# Altium integrated library ON Semi Signal Management Signal Switches.IntLib: 212 symbols (part 3 of 6)
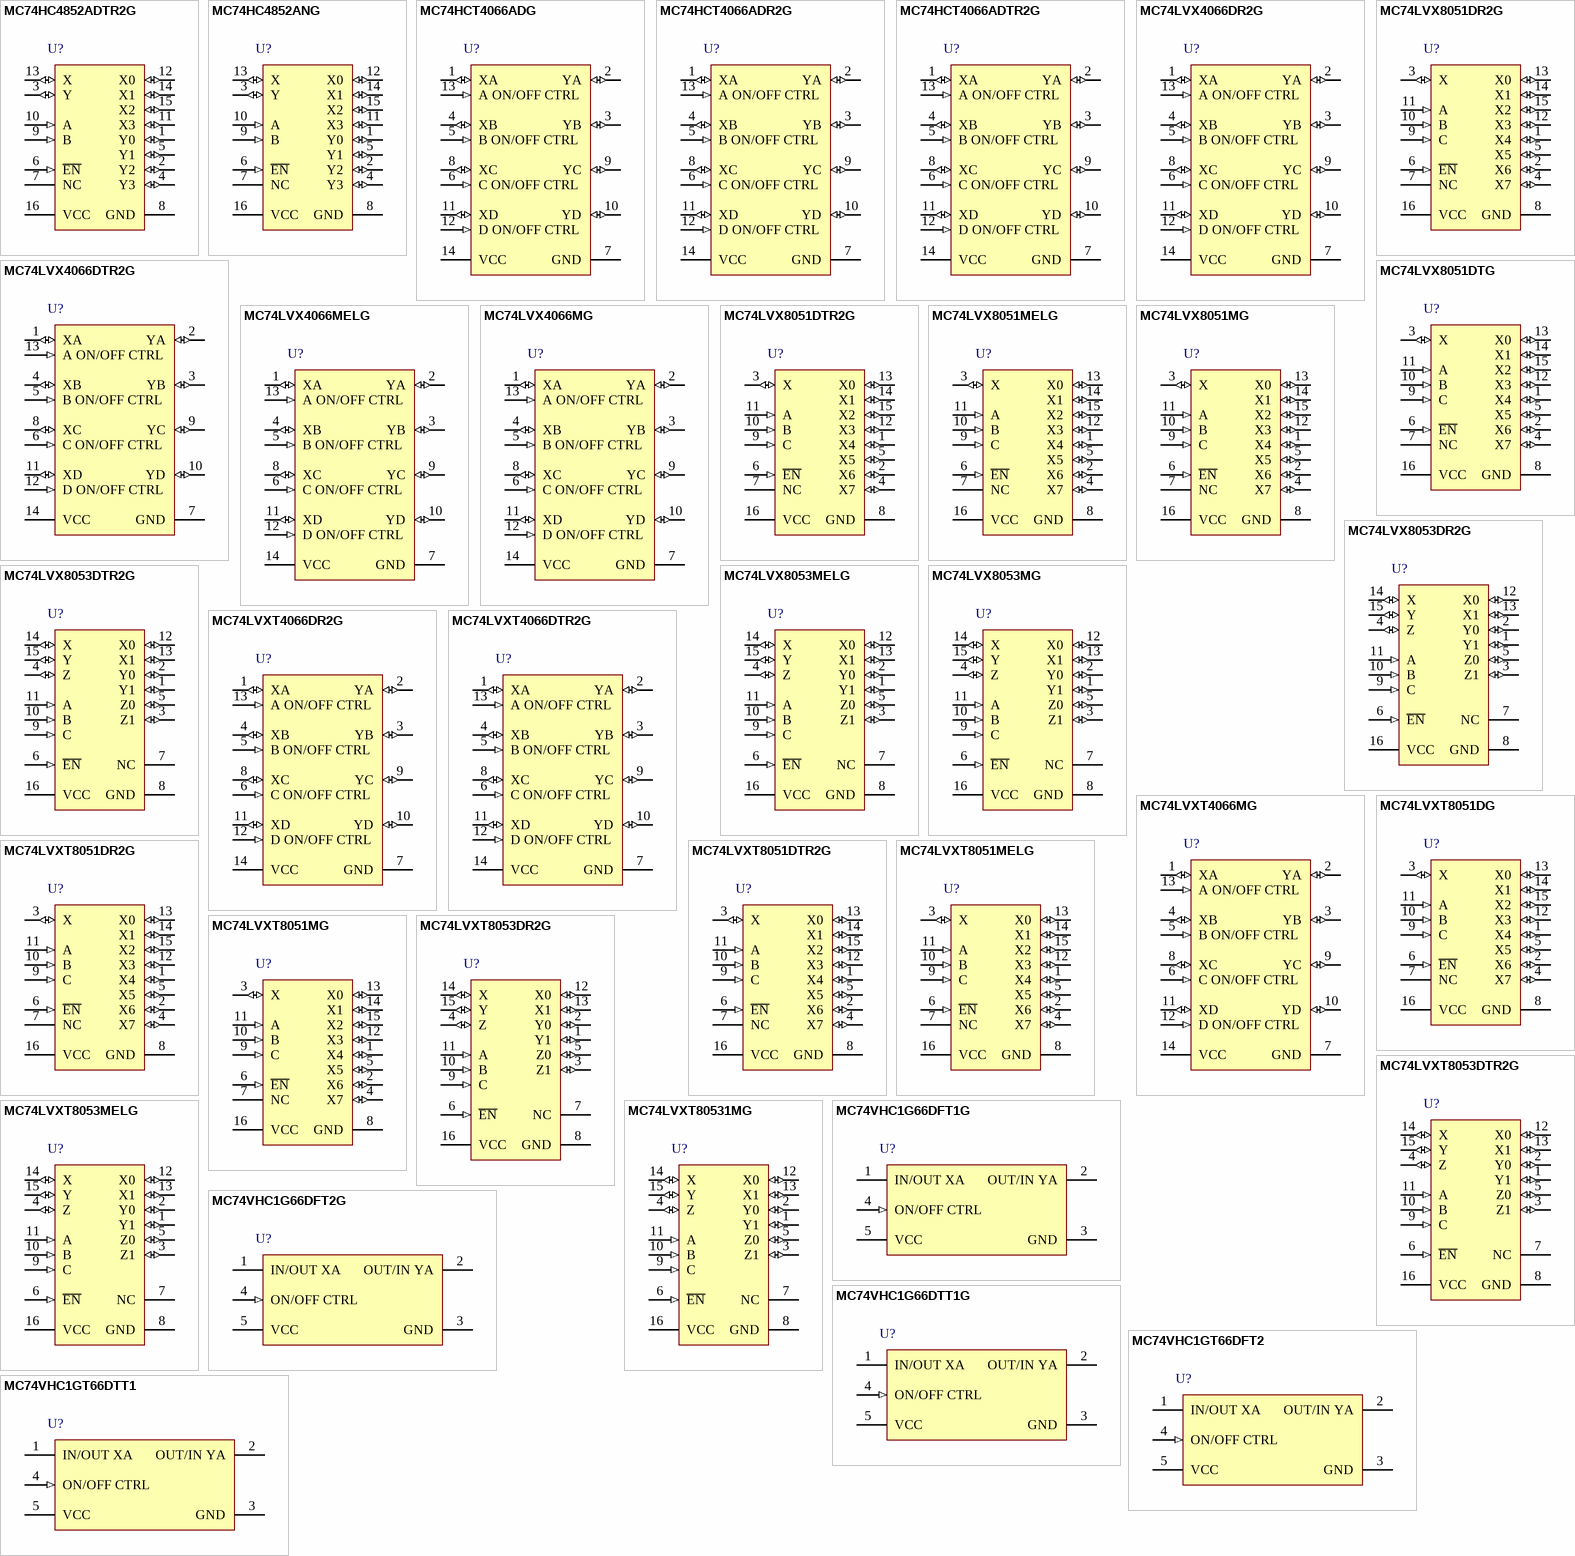
[diagram p8: symbols MC74HC4852ADTR2G to MC74VHC1GT66DTT1]

## MC74VHC1GT66DTT1
designator U?
SPST (NO) Normally Open Analog Switch, 2 to 5.5 V, -55 to 125 degC, 5-Pin TSOP, Tape and Reel; Manufacturer: On Semiconductor; PartNumber: MC74VHC1GT66DTT1; Icc Max (uA): 40; VCC Max (V): 5.5; VCC Min (V): 2; DatasheetVersion: Rev. 15; PackageVersion: Rev. K, 04/2013; PackageReference: TSOP-5-483-02; PackageDescription: 5-Pin Small Outline Package, Body 3 x 1.5 mm, Pitch 0.95 mm; Supplier 1: Digi-Key; Supplier Part Number 1: MC74VHC1GT66DOSTR-ND; Supplier 2: Digi-Key; Supplier Part Number 2: MC74VHC1GT66DOSCT-ND; Supplier 3: Mouser; Supplier Part Number 3: 863-MC74VHC1GT66DTT1; Packing: Tape and Reel; RoHS: FALSE; Mounting Technology: Surface Mount; ComponentLink1Description: Manufacturer URL; ComponentLink1URL: http://www.onsemi.com/; ComponentLink2Description: Datasheet; ComponentLink2URL: http://www.onsemi.com/pub_link/Collateral/MC74VHC1GT66-D.PDF; ComponentLink3Description: Package Specification; ComponentLink3URL: http://www.onsemi.com/pub_link/Collateral/483.PDF
footprint ONSC-TSOP-5-483-02_V (SOP, 5-Leads, Body 3x1.5mm, Pitch 0.95mm)
pins: 1 IN/OUT XA, 2 OUT/IN YA, 3 GND (power), 4 ON/OFF CTRL (in), 5 VCC (power)

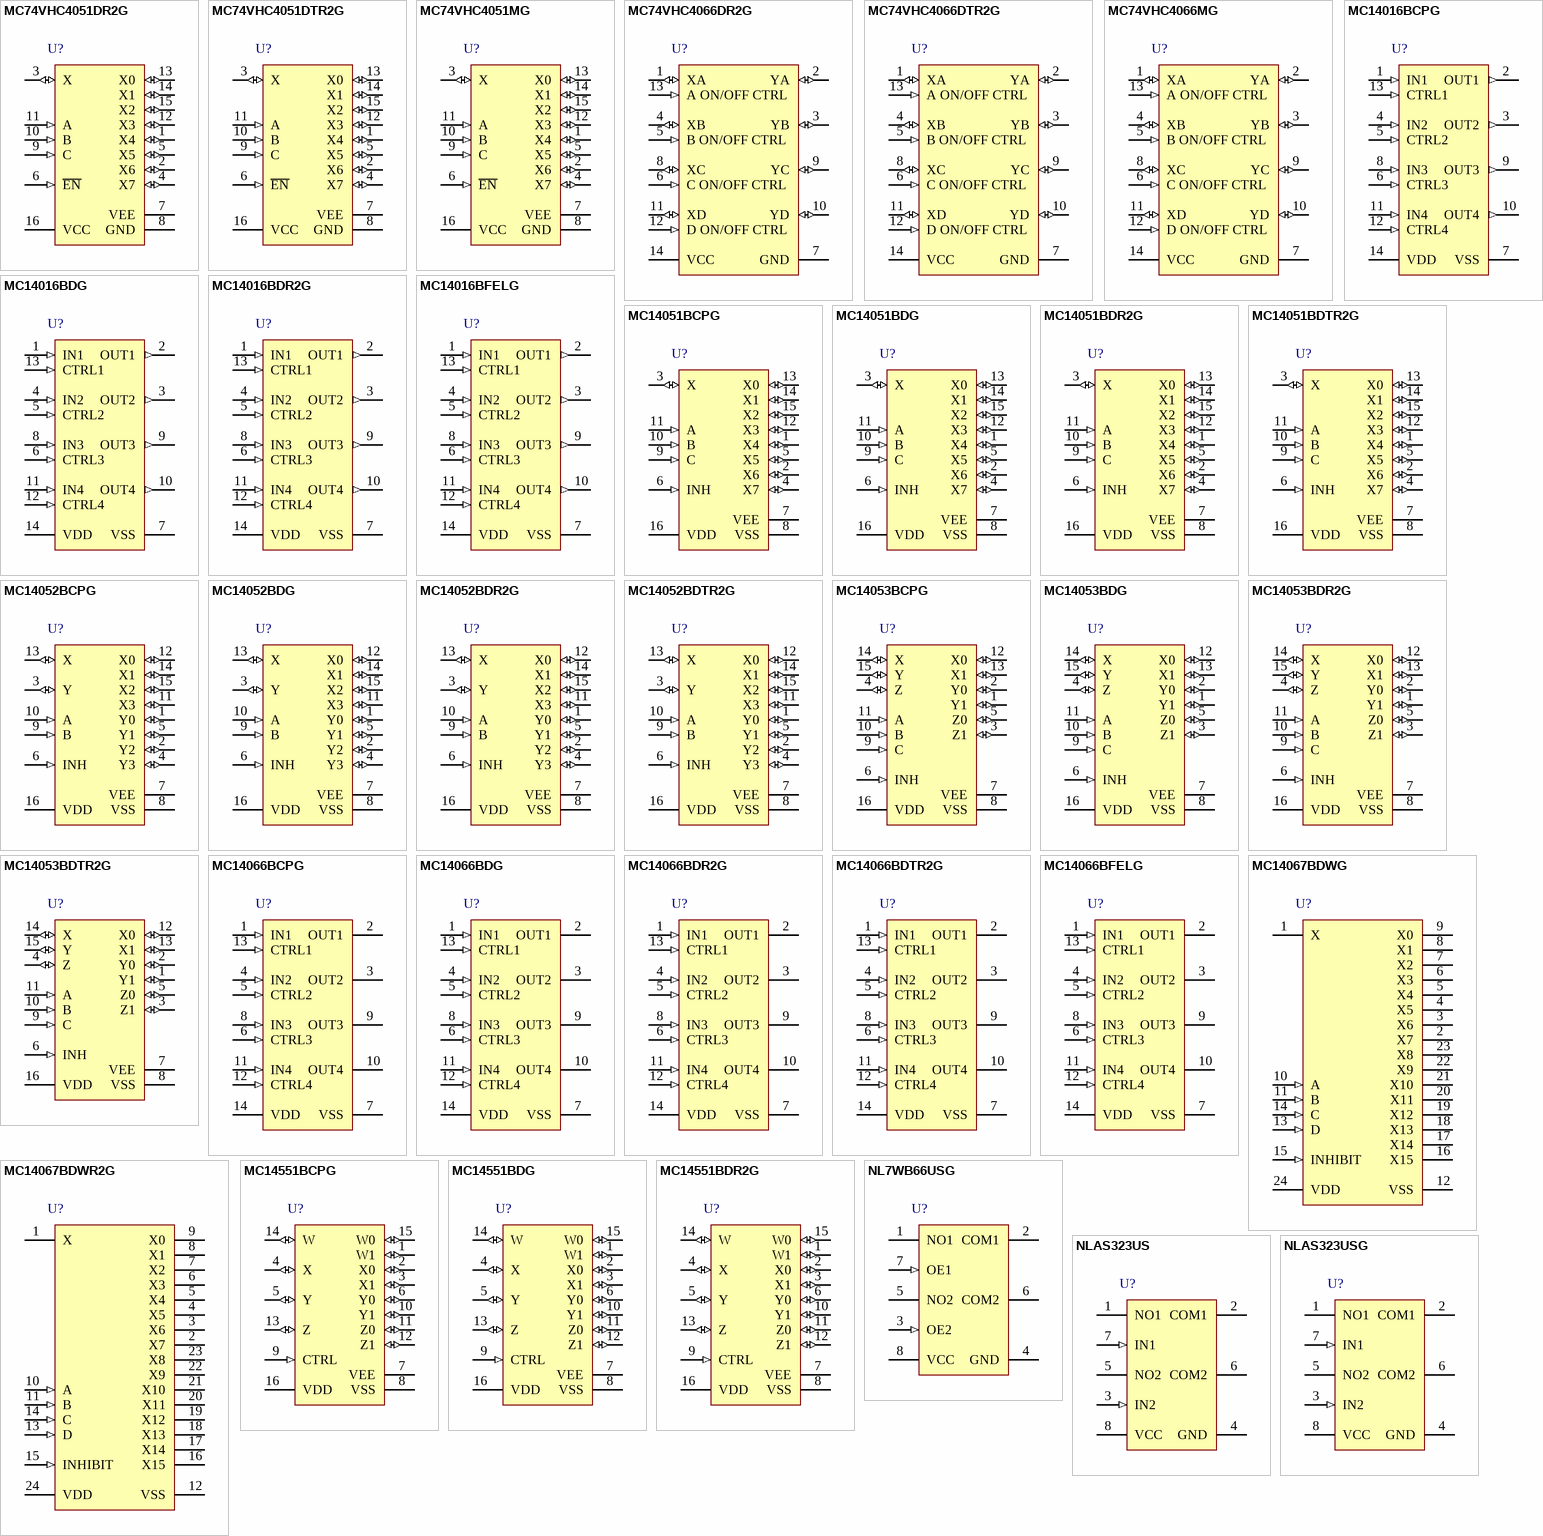
[diagram p2: symbols MC74VHC4051DR2G to NLAS323USG]

## MC74VHC4051DR2G
designator U?
Analog Multiplexer / Demultiplexer, High-Performance Silicon-Gate CMOS, 2 to 12 V, -55 to 125 degC, 16-Pin SOIC, Pb-Free, Tape and Reel; Manufacturer: On Semiconductor; PartNumber: MC74VHC4051DR2G; Icc Max (uA): 80; VCC Max (V): 12; VCC Min (V): 2; DatasheetVersion: Rev. 6; PackageVersion: Rev. K, 12/2006; PackageReference: SOIC-16-751B-05; PackageDescription: 16-Pin Small Outline Integrated Circuit, Body 9.9 x 3.9 mm, Pitch 1.27 mm; Supplier 1: Digi-Key; Supplier Part Number 1: MC74VHC4051DR2GOSTR-ND; Supplier 2: Digi-Key; Supplier Part Number 2: MC74VHC4051DR2GOSCT-ND; Supplier 3: Digi-Key; Supplier Part Number 3: MC74VHC4051DR2GOSDKR-ND; Supplier 4: Newark; Supplier Part Number 4: 26K4374; Supplier 5: Mouser; Supplier Part Number 5: 863-MC74VHC4051DR2G; Packing: Tape and Reel; RoHS: TRUE; Mounting Technology: Surface Mount; ComponentLink1Description: Manufacturer URL; ComponentLink1URL: http://www.onsemi.com/; ComponentLink2Description: Datasheet; ComponentLink2URL: http://www.onsemi.com/pub_link/Collateral/MC74VHC4051-D.PDF; ComponentLink3Description: Package Specification; ComponentLink3URL: http://www.onsemi.com/pub_link/Collateral/751B-05.PDF
footprint ONSC-SOIC-16-751B-05_V (SOIC, 16-Leads, Body 10x4mm, Pitch 1.27mm)
pins: 1 X4 (io), 2 X6 (io), 3 X (io), 4 X7 (io), 5 X5 (io), 6 ~{EN} (in), 7 VEE (power), 8 GND (power), 9 C (in), 10 B (in), 11 A (in), 12 X3 (io), 13 X0 (io), 14 X1 (io), 15 X2 (io), 16 VCC (power)

## MC74VHC4051DTR2G
designator U?
Analog Multiplexer / Demultiplexer, High-Performance Silicon-Gate CMOS, 2 to 12 V, -55 to 125 degC, 16-Pin TSSOP, Pb-Free, Tape and Reel; Manufacturer: On Semiconductor; PartNumber: MC74VHC4051DTR2G; Icc Max (uA): 80; VCC Max (V): 12; VCC Min (V): 2; DatasheetVersion: Rev. 6; PackageVersion: Rev. B, 10/2006; PackageReference: TSSOP-16-948F-01; PackageDescription: 16-Pin Small Outline Package, Body 5 x 4.4 mm, Pitch 0.65 mm; Supplier 1: Digi-Key; Supplier Part Number 1: MC74VHC4051DTR2GOSTR-ND; Supplier 2: Digi-Key; Supplier Part Number 2: MC74VHC4051DTR2GOSCT-ND; Supplier 3: Digi-Key; Supplier Part Number 3: MC74VHC4051DTR2GOSDKR-ND; Supplier 4: Mouser; Supplier Part Number 4: 863-MC74VHC4051DTR2G; Packing: Tape and Reel; RoHS: TRUE; Mounting Technology: Surface Mount; ComponentLink1Description: Manufacturer URL; ComponentLink1URL: http://www.onsemi.com/; ComponentLink2Description: Datasheet; ComponentLink2URL: http://www.onsemi.com/pub_link/Collateral/MC74VHC4051-D.PDF; ComponentLink3Description: Package Specification; ComponentLink3URL: http://www.onsemi.com/pub_link/Collateral/948F-01.PDF
footprint ONSC-TSSOP-16-948F-01_V (SOP, 16-Leads, Body 5.1x4.5mm, Pitch 0.65mm)
pins: 1 X4 (io), 2 X6 (io), 3 X (io), 4 X7 (io), 5 X5 (io), 6 ~{EN} (in), 7 VEE (power), 8 GND (power), 9 C (in), 10 B (in), 11 A (in), 12 X3 (io), 13 X0 (io), 14 X1 (io), 15 X2 (io), 16 VCC (power)

## MC74VHC4051MG
designator U?
Analog Multiplexer / Demultiplexer, High-Performance Silicon-Gate CMOS, 2 to 12 V, -55 to 125 degC, 16-Pin SOEIAJ, Pb-Free, Tube; Manufacturer: On Semiconductor; PartNumber: MC74VHC4051MG; Icc Max (uA): 80; VCC Max (V): 12; VCC Min (V): 2; DatasheetVersion: Rev. 6; PackageVersion: Rev. A, 10/2005; PackageReference: SOEIAJ-16-966-01; PackageDescription: 16-Pin Small Outline Integrated Circuit, Body 10.2 x 5.275 mm, Pitch 1.27 mm; Supplier 1: Digi-Key; Supplier Part Number 1: MC74VHC4051MG-ND; Supplier 2: Mouser; Supplier Part Number 2: 863-MC74VHC4051MG; Packing: Tube; RoHS: TRUE; Mounting Technology: Surface Mount; ComponentLink1Description: Manufacturer URL; ComponentLink1URL: http://www.onsemi.com/; ComponentLink2Description: Datasheet; ComponentLink2URL: http://www.onsemi.com/pub_link/Collateral/MC74VHC4051-D.PDF; ComponentLink3Description: Package Specification; ComponentLink3URL: http://www.onsemi.cn/pub_link/Collateral/966-01.PDF
footprint ONSC-SOEIAJ-16-966-01_N (SOIC, 16-Leads, Body 10.5x5.45mm, Pitch 1.27mm, IPC Medium Density)
footprint ONSC-SOEIAJ-16-966-01_L (SOIC, 16-Leads, Body 10.5x5.45mm, Pitch 1.27mm, IPC High Density)
footprint ONSC-SOEIAJ-16-966-01_M (SOIC, 16-Leads, Body 10.5x5.45mm, Pitch 1.27mm, IPC Low Density)
pins: 1 X4 (io), 2 X6 (io), 3 X (io), 4 X7 (io), 5 X5 (io), 6 ~{EN} (in), 7 VEE (power), 8 GND (power), 9 C (in), 10 B (in), 11 A (in), 12 X3 (io), 13 X0 (io), 14 X1 (io), 15 X2 (io), 16 VCC (power)

## MC74VHC4066DR2G
designator U?
Quad Analog Switch / Multiplexer / Demultiplexer, High-Performance Silicon-Gate CMOS, 2 to 12 V, -55 to 125 degC, 14-Pin SOIC, Pb-Free, Tape and Reel; Manufacturer: On Semiconductor; PartNumber: MC74VHC4066DR2G; Icc Max (uA): 160; VCC Max (V): 12; VCC Min (V): 2; DatasheetVersion: Rev. 6; PackageVersion: Rev. H; PackageReference: SOIC-14-751A-03_H; PackageDescription: 14-Pin Small Outline Integrated Circuit, Body 8.65 x 3.9 mm, Pitch 1.27 mm; Supplier 1: Digi-Key; Supplier Part Number 1: MC74VHC4066DR2G-ND; Supplier 2: Mouser; Supplier Part Number 2: 863-MC74VHC4066DR2G; Packing: Tape and Reel; RoHS: TRUE; Mounting Technology: Surface Mount; ComponentLink1Description: Manufacturer URL; ComponentLink1URL: http://www.onsemi.com/; ComponentLink2Description: Datasheet; ComponentLink2URL: http://www.onsemi.com/pub_link/Collateral/MC74VHC4066-D.PDF; ComponentLink3Description: Package Specification; ComponentLink3URL: http://www.onsemi.com/pub_link/Collateral/MC74AC74-D.PDF
footprint ONSC-SOIC-14-751A-03_H_V (SOIC, 14-Leads, Body 8.75x4mm, Pitch 1.27mm)
pins: 1 XA (io), 2 YA (io), 3 YB (io), 4 XB (io), 5 B ON/OFF CTRL (in), 6 C ON/OFF CTRL (in), 7 GND (power), 8 XC (io), 9 YC (io), 10 YD (io), 11 XD (io), 12 D ON/OFF CTRL (in), 13 A ON/OFF CTRL (in), 14 VCC (power)

## MC74VHC4066DTR2G
designator U?
Quad Analog Switch / Multiplexer / Demultiplexer, High-Performance Silicon-Gate CMOS, 2 to 12 V, -55 to 125 degC, 14-Pin TSSOP, Pb-Free, Tape and Reel; Manufacturer: On Semiconductor; PartNumber: MC74VHC4066DTR2G; Icc Max (uA): 160; VCC Max (V): 12; VCC Min (V): 2; DatasheetVersion: Rev. 6; PackageVersion: Rev. B, 10/2006; PackageReference: TSSOP-14-948G-01; PackageDescription: 14-Pin Small Outline Package, Body 5 x 4.4 mm, Pitch 0.65 mm; Supplier 1: Digi-Key; Supplier Part Number 1: MC74VHC4066DTR2G-ND; Supplier 2: Mouser; Supplier Part Number 2: 863-MC74VHC4066DTR2G; Packing: Tape and Reel; RoHS: TRUE; Mounting Technology: Surface Mount; ComponentLink1Description: Manufacturer URL; ComponentLink1URL: http://www.onsemi.com/; ComponentLink2Description: Datasheet; ComponentLink2URL: http://www.onsemi.com/pub_link/Collateral/MC74VHC4066-D.PDF; ComponentLink3Description: Package Specification; ComponentLink3URL: http://www.onsemi.com/pub_link/Collateral/948G-01.PDF
footprint ONSC-TSSOP-14-948G-01_V (SOP, 14-Leads, Body 5.1x4.5mm, Pitch 0.65mm)
pins: 1 XA (io), 2 YA (io), 3 YB (io), 4 XB (io), 5 B ON/OFF CTRL (in), 6 C ON/OFF CTRL (in), 7 GND (power), 8 XC (io), 9 YC (io), 10 YD (io), 11 XD (io), 12 D ON/OFF CTRL (in), 13 A ON/OFF CTRL (in), 14 VCC (power)

## MC74VHC4066MG
designator U?
Quad Analog Switch / Multiplexer / Demultiplexer, High-Performance Silicon-Gate CMOS, 2 to 12 V, -55 to 125 degC, 14-Pin SOEIAJ, Pb-Free, Tube; Manufacturer: On Semiconductor; PartNumber: MC74VHC4066MG; Icc Max (uA): 160; VCC Max (V): 12; VCC Min (V): 2; DatasheetVersion: Rev. 6; PackageVersion: Rev. B, 02/2008; PackageReference: SOEIAJ-14-965-01; PackageDescription: 14-Pin Small Outline Integrated Circuit, Body 10.2 x 5.275 mm, Pitch 1.27 mm; Supplier 1: Digi-Key; Supplier Part Number 1: MC74VHC4066MG-ND; Supplier 2: Mouser; Supplier Part Number 2: 863-MC74VHC4066MG; Packing: Tube; RoHS: TRUE; Mounting Technology: Surface Mount; ComponentLink1Description: Manufacturer URL; ComponentLink1URL: http://www.onsemi.com/; ComponentLink2Description: Datasheet; ComponentLink2URL: http://www.onsemi.com/pub_link/Collateral/MC74VHC4066-D.PDF; ComponentLink3Description: Package Specification; ComponentLink3URL: http://www.onsemi.com/pub_link/Collateral/965-01.PDF
footprint ONSC-SOEIAJ-14-965-01_N (SOIC, 14-Leads, Body 10.5x5.45mm, Pitch 1.27mm, IPC Medium Density)
footprint ONSC-SOEIAJ-14-965-01_L (SOIC, 14-Leads, Body 10.5x5.45mm, Pitch 1.27mm, IPC High Density)
footprint ONSC-SOEIAJ-14-965-01_M (SOIC, 14-Leads, Body 10.5x5.45mm, Pitch 1.27mm, IPC Low Density)
pins: 1 XA (io), 2 YA (io), 3 YB (io), 4 XB (io), 5 B ON/OFF CTRL (in), 6 C ON/OFF CTRL (in), 7 GND (power), 8 XC (io), 9 YC (io), 10 YD (io), 11 XD (io), 12 D ON/OFF CTRL (in), 13 A ON/OFF CTRL (in), 14 VCC (power)

## MC14016BCPG
designator U?
Quad Analog Switch / Quad Multiplexer, 3 to 18 V, -55 to 125 degC, 14-Pin PDIP, Pb-Free, Tube; Manufacturer: On Semiconductor; PartNumber: MC14016BCPG; Icc Max (uA): 30; VCC Max (V): 18; VCC Min (V): 3; DatasheetVersion: Rev. 10; PackageVersion: Rev. P, 10/2006; PackageReference: PDIP-14-646-06_P; PackageDescription: 14-Pin Plastic Dual-In Line Package, Body 18.86 x 6.35 mm, Pitch 2.54 mm; Supplier 1: Digi-Key; Supplier Part Number 1: MC14016BCPGOS-ND; Supplier 2: Newark; Supplier Part Number 2: 45J1024; Supplier 3: Mouser; Supplier Part Number 3: 863-MC14016BCPG; Packing: Tube; RoHS: TRUE; Mounting Technology: Through Hole; ComponentLink1Description: Manufacturer URL; ComponentLink1URL: http://www.onsemi.com/; ComponentLink2Description: Datasheet; ComponentLink2URL: http://www.onsemi.com/pub_link/Collateral/MC14016B-D.PDF; ComponentLink3Description: Package Specification; ComponentLink3URL: http://www.onsemi.com/pub_link/Collateral/MC14066B-D.PDF
footprint ONSC-PDIP-14-646-06_P (DIP, 14-Leads, Body 19.55x6.6mm, Pitch 2.54mm)
pins: 1 IN1 (in), 2 OUT1 (out), 3 OUT2 (out), 4 IN2 (in), 5 CTRL2 (in), 6 CTRL3 (in), 7 VSS (power), 8 IN3 (in), 9 OUT3 (out), 10 OUT4 (out), 11 IN4 (in), 12 CTRL4 (in), 13 CTRL1 (in), 14 VDD (power)

## MC14016BDG
designator U?
Quad Analog Switch / Quad Multiplexer, 3 to 18 V, -55 to 125 degC, 14-Pin SOIC, Pb-Free, Tube; Manufacturer: On Semiconductor; PartNumber: MC14016BDG; Icc Max (uA): 30; VCC Max (V): 18; VCC Min (V): 3; DatasheetVersion: Rev. 10; PackageVersion: Rev. K, 05/2011; PackageReference: SOIC-14-751A-03; PackageDescription: 14-Pin Small Outline Integrated Circuit, Body 8.65 x 3.9 mm, Pitch 1.27 mm; Supplier 1: Digi-Key; Supplier Part Number 1: MC14016BDGOS-ND; Supplier 2: Farnell; Supplier Part Number 2: 2126835; Supplier 3: Newark; Supplier Part Number 3: 71J5456; Supplier 4: Mouser; Supplier Part Number 4: 863-MC14016BDG; Packing: Tube; RoHS: TRUE; Mounting Technology: Surface Mount; ComponentLink1Description: Manufacturer URL; ComponentLink1URL: http://www.onsemi.com/; ComponentLink2Description: Datasheet; ComponentLink2URL: http://www.onsemi.com/pub_link/Collateral/MC14016B-D.PDF; ComponentLink3Description: Package Specification; ComponentLink3URL: http://www.onsemi.com/pub_link/Collateral/751A-03.PDF
footprint ONSC-SOIC-14-751A-03_V (SOIC, 14-Leads, Body 8.75x4mm, Pitch 1.27mm)
pins: 1 IN1 (in), 2 OUT1 (out), 3 OUT2 (out), 4 IN2 (in), 5 CTRL2 (in), 6 CTRL3 (in), 7 VSS (power), 8 IN3 (in), 9 OUT3 (out), 10 OUT4 (out), 11 IN4 (in), 12 CTRL4 (in), 13 CTRL1 (in), 14 VDD (power)

## MC14016BDR2G
designator U?
Quad Analog Switch / Quad Multiplexer, 3 to 18 V, -55 to 125 degC, 14-Pin SOIC, Pb-Free, Tape and Reel; Manufacturer: On Semiconductor; PartNumber: MC14016BDR2G; Icc Max (uA): 30; VCC Max (V): 18; VCC Min (V): 3; DatasheetVersion: Rev. 10; PackageVersion: Rev. K, 05/2011; PackageReference: SOIC-14-751A-03; PackageDescription: 14-Pin Small Outline Integrated Circuit, Body 8.65 x 3.9 mm, Pitch 1.27 mm; Supplier 1: Digi-Key; Supplier Part Number 1: MC14016BDR2GOSTR-ND; Supplier 2: Digi-Key; Supplier Part Number 2: MC14016BDR2GOSCT-ND; Supplier 3: Digi-Key; Supplier Part Number 3: MC14016BDR2GOSDKR-ND; Supplier 4: Mouser; Supplier Part Number 4: 863-MC14016BDR2G; Packing: Tape and Reel; RoHS: TRUE; Mounting Technology: Surface Mount; ComponentLink1Description: Manufacturer URL; ComponentLink1URL: http://www.onsemi.com/; ComponentLink2Description: Datasheet; ComponentLink2URL: http://www.onsemi.com/pub_link/Collateral/MC14016B-D.PDF; ComponentLink3Description: Package Specification; ComponentLink3URL: http://www.onsemi.com/pub_link/Collateral/751A-03.PDF
footprint ONSC-SOIC-14-751A-03_V (SOIC, 14-Leads, Body 8.75x4mm, Pitch 1.27mm)
pins: 1 IN1 (in), 2 OUT1 (out), 3 OUT2 (out), 4 IN2 (in), 5 CTRL2 (in), 6 CTRL3 (in), 7 VSS (power), 8 IN3 (in), 9 OUT3 (out), 10 OUT4 (out), 11 IN4 (in), 12 CTRL4 (in), 13 CTRL1 (in), 14 VDD (power)

## MC14016BFELG
designator U?
Quad Analog Switch / Quad Multiplexer, 3 to 18 V, -55 to 125 degC, 14-Pin SOEIAJ, Pb-Free, Tape and Reel; Manufacturer: On Semiconductor; PartNumber: MC14016BFELG; Icc Max (uA): 30; VCC Max (V): 18; VCC Min (V): 3; DatasheetVersion: Rev. 10; PackageVersion: Rev. B, 02/2008; PackageReference: SOEIAJ-14-965-01; PackageDescription: 14-Pin Small Outline Integrated Circuit, Body 10.2 x 5.275 mm, Pitch 1.27 mm; Supplier 1: Digi-Key; Supplier Part Number 1: MC14016BFELG-ND; Supplier 2: Mouser; Supplier Part Number 2: 863-MC14016BFELG; Packing: Tape and Reel; RoHS: TRUE; Mounting Technology: Surface Mount; ComponentLink1Description: Manufacturer URL; ComponentLink1URL: http://www.onsemi.com/; ComponentLink2Description: Datasheet; ComponentLink2URL: http://www.onsemi.com/pub_link/Collateral/MC14016B-D.PDF; ComponentLink3Description: Package Specification; ComponentLink3URL: http://www.onsemi.com/pub_link/Collateral/965-01.PDF
footprint ONSC-SOEIAJ-14-965-01_N (SOIC, 14-Leads, Body 10.5x5.45mm, Pitch 1.27mm, IPC Medium Density)
footprint ONSC-SOEIAJ-14-965-01_L (SOIC, 14-Leads, Body 10.5x5.45mm, Pitch 1.27mm, IPC High Density)
footprint ONSC-SOEIAJ-14-965-01_M (SOIC, 14-Leads, Body 10.5x5.45mm, Pitch 1.27mm, IPC Low Density)
pins: 1 IN1 (in), 2 OUT1 (out), 3 OUT2 (out), 4 IN2 (in), 5 CTRL2 (in), 6 CTRL3 (in), 7 VSS (power), 8 IN3 (in), 9 OUT3 (out), 10 OUT4 (out), 11 IN4 (in), 12 CTRL4 (in), 13 CTRL1 (in), 14 VDD (power)

## MC14051BCPG
designator U?
Analog Multiplexer / Demultiplexer, 3 to 18 V, -55 to 125 degC, 16-Pin PDIP, Pb-Free, Tube; Manufacturer: On Semiconductor; PartNumber: MC14051BCPG; Icc Max (uA): 600; VCC Max (V): 18; VCC Min (V): 3; DatasheetVersion: Rev. 13; PackageVersion: Rev. T, 05/2004; PackageReference: PDIP-16-648-08_T; PackageDescription: 16-Pin Plastic Dual-In Line Package, Body 19.175 x 6.6 mm, Pitch 2.54 mm; Supplier 1: Digi-Key; Supplier Part Number 1: MC14051BCPGOS-ND; Supplier 2: Farnell; Supplier Part Number 2: 9665684; Supplier 3: Newark; Supplier Part Number 3: 45J1060; Supplier 4: Mouser; Supplier Part Number 4: 863-MC14051BCPG; Packing: Tube; RoHS: TRUE; Mounting Technology: Through Hole; ComponentLink1Description: Manufacturer URL; ComponentLink1URL: http://www.onsemi.com/; ComponentLink2Description: Datasheet; ComponentLink2URL: http://www.onsemi.com/pub_link/Collateral/MC14051B-D.PDF; ComponentLink3Description: Package Specification; ComponentLink3URL: http://www.onsemi.com/pub_link/Collateral/MC14028B-D.PDF
footprint ONSC-PDIP-16-648-08_T (DIP, 16-Leads, Body 19.55x6.85mm, Pitch 2.54mm)
pins: 1 X4 (io), 2 X6 (io), 3 X (io), 4 X7 (io), 5 X5 (io), 6 INH (in), 7 VEE (power), 8 VSS (power), 9 C (in), 10 B (in), 11 A (in), 12 X3 (io), 13 X0 (io), 14 X1 (io), 15 X2 (io), 16 VDD (power)

## MC14051BDG
designator U?
Analog Multiplexer / Demultiplexer, 3 to 18 V, -55 to 125 degC, 16-Pin SOIC, Pb-Free, Tube; Manufacturer: On Semiconductor; PartNumber: MC14051BDG; Icc Max (uA): 600; VCC Max (V): 18; VCC Min (V): 3; DatasheetVersion: Rev. 13; PackageVersion: Rev. K, 12/2006; PackageReference: SOIC-16-751B-05; PackageDescription: 16-Pin Small Outline Integrated Circuit, Body 9.9 x 3.9 mm, Pitch 1.27 mm; Supplier 1: Digi-Key; Supplier Part Number 1: MC14051BDGOS-ND; Supplier 2: Farnell; Supplier Part Number 2: 9666400; Supplier 3: Newark; Supplier Part Number 3: 45J1061; Supplier 4: Mouser; Supplier Part Number 4: 863-MC14051BDG; Packing: Tube; RoHS: TRUE; Mounting Technology: Surface Mount; ComponentLink1Description: Manufacturer URL; ComponentLink1URL: http://www.onsemi.com/; ComponentLink2Description: Datasheet; ComponentLink2URL: http://www.onsemi.com/pub_link/Collateral/MC14051B-D.PDF; ComponentLink3Description: Package Specification; ComponentLink3URL: http://www.onsemi.com/pub_link/Collateral/751B-05.PDF
footprint ONSC-SOIC-16-751B-05_V (SOIC, 16-Leads, Body 10x4mm, Pitch 1.27mm)
pins: 1 X4 (io), 2 X6 (io), 3 X (io), 4 X7 (io), 5 X5 (io), 6 INH (in), 7 VEE (power), 8 VSS (power), 9 C (in), 10 B (in), 11 A (in), 12 X3 (io), 13 X0 (io), 14 X1 (io), 15 X2 (io), 16 VDD (power)

## MC14051BDR2G
designator U?
Analog Multiplexer / Demultiplexer, 3 to 18 V, -55 to 125 degC, 16-Pin SOIC, Pb-Free, Tape and Reel; Manufacturer: On Semiconductor; PartNumber: MC14051BDR2G; Icc Max (uA): 600; VCC Max (V): 18; VCC Min (V): 3; DatasheetVersion: Rev. 13; PackageVersion: Rev. K, 12/2006; PackageReference: SOIC-16-751B-05; PackageDescription: 16-Pin Small Outline Integrated Circuit, Body 9.9 x 3.9 mm, Pitch 1.27 mm; Supplier 1: Digi-Key; Supplier Part Number 1: MC14051BDR2GOSTR-ND; Supplier 2: Digi-Key; Supplier Part Number 2: MC14051BDR2GOSCT-ND; Supplier 3: Digi-Key; Supplier Part Number 3: MC14051BDR2GOSDKR-ND; Supplier 4: Newark; Supplier Part Number 4: 45J1062; Supplier 5: Newark; Supplier Part Number 5: 29X6043; Supplier 6: Mouser; Supplier Part Number 6: 863-MC14051BDR2G; Packing: Tape and Reel; RoHS: TRUE; Mounting Technology: Surface Mount; ComponentLink1Description: Manufacturer URL; ComponentLink1URL: http://www.onsemi.com/; ComponentLink2Description: Datasheet; ComponentLink2URL: http://www.onsemi.com/pub_link/Collateral/MC14051B-D.PDF; ComponentLink3Description: Package Specification; ComponentLink3URL: http://www.onsemi.com/pub_link/Collateral/751B-05.PDF
footprint ONSC-SOIC-16-751B-05_V (SOIC, 16-Leads, Body 10x4mm, Pitch 1.27mm)
pins: 1 X4 (io), 2 X6 (io), 3 X (io), 4 X7 (io), 5 X5 (io), 6 INH (in), 7 VEE (power), 8 VSS (power), 9 C (in), 10 B (in), 11 A (in), 12 X3 (io), 13 X0 (io), 14 X1 (io), 15 X2 (io), 16 VDD (power)

## MC14051BDTR2G
designator U?
Analog Multiplexer / Demultiplexer, 3 to 18 V, -55 to 125 degC, 16-Pin TSSOP, Pb-Free, Tape and Reel; Manufacturer: On Semiconductor; PartNumber: MC14051BDTR2G; Icc Max (uA): 600; VCC Max (V): 18; VCC Min (V): 3; DatasheetVersion: Rev. 13; PackageVersion: Rev. B, 10/2006; PackageReference: TSSOP-16-948F-01; PackageDescription: 16-Pin Small Outline Package, Body 5 x 4.4 mm, Pitch 0.65 mm; Supplier 1: Digi-Key; Supplier Part Number 1: MC14051BDTR2GOSTR-ND; Supplier 2: Digi-Key; Supplier Part Number 2: MC14051BDTR2GOSCT-ND; Supplier 3: Digi-Key; Supplier Part Number 3: MC14051BDTR2GOSDKR-ND; Supplier 4: Farnell; Supplier Part Number 4: 1567168; Supplier 5: Newark; Supplier Part Number 5: 42K0523; Supplier 6: Newark; Supplier Part Number 6: 29X6044; Supplier 7: Mouser; Supplier Part Number 7: 863-MC14051BDTR2G; Packing: Tape and Reel; RoHS: TRUE; Mounting Technology: Surface Mount; ComponentLink1Description: Manufacturer URL; ComponentLink1URL: http://www.onsemi.com/; ComponentLink2Description: Datasheet; ComponentLink2URL: http://www.onsemi.com/pub_link/Collateral/MC14051B-D.PDF; ComponentLink3Description: Package Specification; ComponentLink3URL: http://www.onsemi.com/pub_link/Collateral/948F-01.PDF
footprint ONSC-TSSOP-16-948F-01_V (SOP, 16-Leads, Body 5.1x4.5mm, Pitch 0.65mm)
pins: 1 X4 (io), 2 X6 (io), 3 X (io), 4 X7 (io), 5 X5 (io), 6 INH (in), 7 VEE (power), 8 VSS (power), 9 C (in), 10 B (in), 11 A (in), 12 X3 (io), 13 X0 (io), 14 X1 (io), 15 X2 (io), 16 VDD (power)

## MC14052BCPG
designator U?
Analog Multiplexer / Demultiplexer, 3 to 18 V, -55 to 125 degC, 16-Pin PDIP, Pb-Free, Tube; Manufacturer: On Semiconductor; PartNumber: MC14052BCPG; Icc Max (uA): 600; VCC Max (V): 18; VCC Min (V): 3; DatasheetVersion: Rev. 13; PackageVersion: Rev. T, 05/2004; PackageReference: PDIP-16-648-08_T; PackageDescription: 16-Pin Plastic Dual-In Line Package, Body 19.175 x 6.6 mm, Pitch 2.54 mm; Supplier 1: Digi-Key; Supplier Part Number 1: MC14052BCPGOS-ND; Supplier 2: Farnell; Supplier Part Number 2: 9665692; Supplier 3: Farnell; Supplier Part Number 3: 2133967; Supplier 4: Newark; Supplier Part Number 4: 98H0653; Supplier 5: Mouser; Supplier Part Number 5: 863-MC14052BCPG; Packing: Tube; RoHS: TRUE; Mounting Technology: Through Hole; ComponentLink1Description: Manufacturer URL; ComponentLink1URL: http://www.onsemi.com/; ComponentLink2Description: Datasheet; ComponentLink2URL: http://www.onsemi.com/pub_link/Collateral/MC14051B-D.PDF; ComponentLink3Description: Package Specification; ComponentLink3URL: http://www.onsemi.com/pub_link/Collateral/MC14028B-D.PDF
footprint ONSC-PDIP-16-648-08_T (DIP, 16-Leads, Body 19.55x6.85mm, Pitch 2.54mm)
pins: 1 Y0 (io), 2 Y2 (io), 3 Y (io), 4 Y3 (io), 5 Y1 (io), 6 INH (in), 7 VEE (power), 8 VSS (power), 9 B (in), 10 A (in), 11 X3 (io), 12 X0 (io), 13 X (io), 14 X1 (io), 15 X2 (io), 16 VDD (power)

## MC14052BDG
designator U?
Analog Multiplexer / Demultiplexer, 3 to 18 V, -55 to 125 degC, 16-Pin SOIC, Pb-Free, Tube; Manufacturer: On Semiconductor; PartNumber: MC14052BDG; Icc Max (uA): 600; VCC Max (V): 18; VCC Min (V): 3; DatasheetVersion: Rev. 13; PackageVersion: Rev. K, 12/2006; PackageReference: SOIC-16-751B-05; PackageDescription: 16-Pin Small Outline Integrated Circuit, Body 9.9 x 3.9 mm, Pitch 1.27 mm; Supplier 1: Digi-Key; Supplier Part Number 1: MC14052BDGOS-ND; Supplier 2: Farnell; Supplier Part Number 2: 9666419; Supplier 3: Newark; Supplier Part Number 3: 71J5472; Supplier 4: Mouser; Supplier Part Number 4: 863-MC14052BDG; Packing: Tube; RoHS: TRUE; Mounting Technology: Surface Mount; ComponentLink1Description: Manufacturer URL; ComponentLink1URL: http://www.onsemi.com/; ComponentLink2Description: Datasheet; ComponentLink2URL: http://www.onsemi.com/pub_link/Collateral/MC14051B-D.PDF; ComponentLink3Description: Package Specification; ComponentLink3URL: http://www.onsemi.com/pub_link/Collateral/751B-05.PDF
footprint ONSC-SOIC-16-751B-05_V (SOIC, 16-Leads, Body 10x4mm, Pitch 1.27mm)
pins: 1 Y0 (io), 2 Y2 (io), 3 Y (io), 4 Y3 (io), 5 Y1 (io), 6 INH (in), 7 VEE (power), 8 VSS (power), 9 B (in), 10 A (in), 11 X3 (io), 12 X0 (io), 13 X (io), 14 X1 (io), 15 X2 (io), 16 VDD (power)

## MC14052BDR2G
designator U?
Analog Multiplexer / Demultiplexer, 3 to 18 V, -55 to 125 degC, 16-Pin SOIC, Pb-Free, Tape and Reel; Manufacturer: On Semiconductor; PartNumber: MC14052BDR2G; Icc Max (uA): 600; VCC Max (V): 18; VCC Min (V): 3; DatasheetVersion: Rev. 13; PackageVersion: Rev. K, 12/2006; PackageReference: SOIC-16-751B-05; PackageDescription: 16-Pin Small Outline Integrated Circuit, Body 9.9 x 3.9 mm, Pitch 1.27 mm; Supplier 1: Digi-Key; Supplier Part Number 1: MC14052BDR2GOSTR-ND; Supplier 2: Digi-Key; Supplier Part Number 2: MC14052BDR2GOSCT-ND; Supplier 3: Digi-Key; Supplier Part Number 3: MC14052BDR2GOSDKR-ND; Supplier 4: Newark; Supplier Part Number 4: 84K8746; Supplier 5: Mouser; Supplier Part Number 5: 863-MC14052BDR2G; Packing: Tape and Reel; RoHS: TRUE; Mounting Technology: Surface Mount; ComponentLink1Description: Manufacturer URL; ComponentLink1URL: http://www.onsemi.com/; ComponentLink2Description: Datasheet; ComponentLink2URL: http://www.onsemi.com/pub_link/Collateral/MC14051B-D.PDF; ComponentLink3Description: Package Specification; ComponentLink3URL: http://www.onsemi.com/pub_link/Collateral/751B-05.PDF
footprint ONSC-SOIC-16-751B-05_V (SOIC, 16-Leads, Body 10x4mm, Pitch 1.27mm)
pins: 1 Y0 (io), 2 Y2 (io), 3 Y (io), 4 Y3 (io), 5 Y1 (io), 6 INH (in), 7 VEE (power), 8 VSS (power), 9 B (in), 10 A (in), 11 X3 (io), 12 X0 (io), 13 X (io), 14 X1 (io), 15 X2 (io), 16 VDD (power)

## MC14052BDTR2G
designator U?
Analog Multiplexer / Demultiplexer, 3 to 18 V, -55 to 125 degC, 16-Pin TSSOP, Pb-Free, Tape and Reel; Manufacturer: On Semiconductor; PartNumber: MC14052BDTR2G; Icc Max (uA): 600; VCC Max (V): 18; VCC Min (V): 3; DatasheetVersion: Rev. 13; PackageVersion: Rev. B, 10/2006; PackageReference: TSSOP-16-948F-01; PackageDescription: 16-Pin Small Outline Package, Body 5 x 4.4 mm, Pitch 0.65 mm; Supplier 1: Digi-Key; Supplier Part Number 1: MC14052BDTR2GOSTR-ND; Supplier 2: Digi-Key; Supplier Part Number 2: MC14052BDTR2GOSCT-ND; Supplier 3: Digi-Key; Supplier Part Number 3: MC14052BDTR2GOSDKR-ND; Supplier 4: Newark; Supplier Part Number 4: 42K0524; Supplier 5: Mouser; Supplier Part Number 5: 863-MC14052BDTR2G; Packing: Tape and Reel; RoHS: TRUE; Mounting Technology: Surface Mount; ComponentLink1Description: Manufacturer URL; ComponentLink1URL: http://www.onsemi.com/; ComponentLink2Description: Datasheet; ComponentLink2URL: http://www.onsemi.com/pub_link/Collateral/MC14051B-D.PDF; ComponentLink3Description: Package Specification; ComponentLink3URL: http://www.onsemi.com/pub_link/Collateral/948F-01.PDF
footprint ONSC-TSSOP-16-948F-01_V (SOP, 16-Leads, Body 5.1x4.5mm, Pitch 0.65mm)
pins: 1 Y0 (io), 2 Y2 (io), 3 Y (io), 4 Y3 (io), 5 Y1 (io), 6 INH (in), 7 VEE (power), 8 VSS (power), 9 B (in), 10 A (in), 11 X3 (io), 12 X0 (io), 13 X (io), 14 X1 (io), 15 X2 (io), 16 VDD (power)

## MC14053BCPG
designator U?
Analog Multiplexer / Demultiplexer, 3 to 18 V, -55 to 125 degC, 16-Pin PDIP, Pb-Free, Tube; Manufacturer: On Semiconductor; PartNumber: MC14053BCPG; Icc Max (uA): 600; VCC Max (V): 18; VCC Min (V): 3; DatasheetVersion: Rev. 13; PackageVersion: Rev. T, 05/2004; PackageReference: PDIP-16-648-08_T; PackageDescription: 16-Pin Plastic Dual-In Line Package, Body 19.175 x 6.6 mm, Pitch 2.54 mm; Supplier 1: Digi-Key; Supplier Part Number 1: MC14053BCPGOS-ND; Supplier 2: Farnell; Supplier Part Number 2: 9664696; Supplier 3: Newark; Supplier Part Number 3: 45J1063; Supplier 4: Mouser; Supplier Part Number 4: 863-MC14053BCPG; Packing: Tube; RoHS: TRUE; Mounting Technology: Through Hole; ComponentLink1Description: Manufacturer URL; ComponentLink1URL: http://www.onsemi.com/; ComponentLink2Description: Datasheet; ComponentLink2URL: http://www.onsemi.com/pub_link/Collateral/MC14051B-D.PDF; ComponentLink3Description: Package Specification; ComponentLink3URL: http://www.onsemi.com/pub_link/Collateral/MC14028B-D.PDF
footprint ONSC-PDIP-16-648-08_T (DIP, 16-Leads, Body 19.55x6.85mm, Pitch 2.54mm)
pins: 1 Y1 (io), 2 Y0 (io), 3 Z1 (io), 4 Z (io), 5 Z0 (io), 6 INH (in), 7 VEE (power), 8 VSS (power), 9 C (in), 10 B (in), 11 A (in), 12 X0 (io), 13 X1 (io), 14 X (io), 15 Y (io), 16 VDD (power)

## MC14053BDG
designator U?
Analog Multiplexer / Demultiplexer, 3 to 18 V, -55 to 125 degC, 16-Pin SOIC, Pb-Free, Tube; Manufacturer: On Semiconductor; PartNumber: MC14053BDG; Icc Max (uA): 600; VCC Max (V): 18; VCC Min (V): 3; DatasheetVersion: Rev. 13; PackageVersion: Rev. K, 12/2006; PackageReference: SOIC-16-751B-05; PackageDescription: 16-Pin Small Outline Integrated Circuit, Body 9.9 x 3.9 mm, Pitch 1.27 mm; Supplier 1: Digi-Key; Supplier Part Number 1: MC14053BDGOS-ND; Supplier 2: Farnell; Supplier Part Number 2: 9666427; Supplier 3: Newark; Supplier Part Number 3: 45J1064; Supplier 4: Mouser; Supplier Part Number 4: 863-MC14053BDG; Packing: Tube; RoHS: TRUE; Mounting Technology: Surface Mount; ComponentLink1Description: Manufacturer URL; ComponentLink1URL: http://www.onsemi.com/; ComponentLink2Description: Datasheet; ComponentLink2URL: http://www.onsemi.com/pub_link/Collateral/MC14051B-D.PDF; ComponentLink3Description: Package Specification; ComponentLink3URL: http://www.onsemi.com/pub_link/Collateral/751B-05.PDF
footprint ONSC-SOIC-16-751B-05_V (SOIC, 16-Leads, Body 10x4mm, Pitch 1.27mm)
pins: 1 Y1 (io), 2 Y0 (io), 3 Z1 (io), 4 Z (io), 5 Z0 (io), 6 INH (in), 7 VEE (power), 8 VSS (power), 9 C (in), 10 B (in), 11 A (in), 12 X0 (io), 13 X1 (io), 14 X (io), 15 Y (io), 16 VDD (power)

## MC14053BDR2G
designator U?
Analog Multiplexer / Demultiplexer, 3 to 18 V, -55 to 125 degC, 16-Pin SOIC, Pb-Free, Tape and Reel; Manufacturer: On Semiconductor; PartNumber: MC14053BDR2G; Icc Max (uA): 600; VCC Max (V): 18; VCC Min (V): 3; DatasheetVersion: Rev. 13; PackageVersion: Rev. K, 12/2006; PackageReference: SOIC-16-751B-05; PackageDescription: 16-Pin Small Outline Integrated Circuit, Body 9.9 x 3.9 mm, Pitch 1.27 mm; Supplier 1: Digi-Key; Supplier Part Number 1: MC14053BDR2GOSTR-ND; Supplier 2: Digi-Key; Supplier Part Number 2: MC14053BDR2GOSCT-ND; Supplier 3: Digi-Key; Supplier Part Number 3: MC14053BDR2GOSDKR-ND; Supplier 4: Farnell; Supplier Part Number 4: 2414115; Supplier 5: Newark; Supplier Part Number 5: 84K8747; Supplier 6: Newark; Supplier Part Number 6: 98H0655; Supplier 7: Mouser; Supplier Part Number 7: 863-MC14053BDR2G; Packing: Tape and Reel; RoHS: TRUE; Mounting Technology: Surface Mount; ComponentLink1Description: Manufacturer URL; ComponentLink1URL: http://www.onsemi.com/; ComponentLink2Description: Datasheet; ComponentLink2URL: http://www.onsemi.com/pub_link/Collateral/MC14051B-D.PDF; ComponentLink3Description: Package Specification; ComponentLink3URL: http://www.onsemi.com/pub_link/Collateral/751B-05.PDF
footprint ONSC-SOIC-16-751B-05_V (SOIC, 16-Leads, Body 10x4mm, Pitch 1.27mm)
pins: 1 Y1 (io), 2 Y0 (io), 3 Z1 (io), 4 Z (io), 5 Z0 (io), 6 INH (in), 7 VEE (power), 8 VSS (power), 9 C (in), 10 B (in), 11 A (in), 12 X0 (io), 13 X1 (io), 14 X (io), 15 Y (io), 16 VDD (power)

## MC14053BDTR2G
designator U?
Analog Multiplexer / Demultiplexer, 3 to 18 V, -55 to 125 degC, 16-Pin TSSOP, Pb-Free, Tape and Reel; Manufacturer: On Semiconductor; PartNumber: MC14053BDTR2G; Icc Max (uA): 600; VCC Max (V): 18; VCC Min (V): 3; DatasheetVersion: Rev. 13; PackageVersion: Rev. B, 10/2006; PackageReference: TSSOP-16-948F-01; PackageDescription: 16-Pin Small Outline Package, Body 5 x 4.4 mm, Pitch 0.65 mm; Supplier 1: Digi-Key; Supplier Part Number 1: MC14053BDTR2GOSTR-ND; Supplier 2: Digi-Key; Supplier Part Number 2: MC14053BDTR2GOSCT-ND; Supplier 3: Digi-Key; Supplier Part Number 3: MC14053BDTR2GOSDKR-ND; Supplier 4: Farnell; Supplier Part Number 4: 1705446; Supplier 5: Newark; Supplier Part Number 5: 04R7824; Supplier 6: Newark; Supplier Part Number 6: 42K0525; Supplier 7: Mouser; Supplier Part Number 7: 863-MC14053BDTR2G; Packing: Tape and Reel; RoHS: TRUE; Mounting Technology: Surface Mount; ComponentLink1Description: Manufacturer URL; ComponentLink1URL: http://www.onsemi.com/; ComponentLink2Description: Datasheet; ComponentLink2URL: http://www.onsemi.com/pub_link/Collateral/MC14051B-D.PDF; ComponentLink3Description: Package Specification; ComponentLink3URL: http://www.onsemi.com/pub_link/Collateral/948F-01.PDF
footprint ONSC-TSSOP-16-948F-01_V (SOP, 16-Leads, Body 5.1x4.5mm, Pitch 0.65mm)
pins: 1 Y1 (io), 2 Y0 (io), 3 Z1 (io), 4 Z (io), 5 Z0 (io), 6 INH (in), 7 VEE (power), 8 VSS (power), 9 C (in), 10 B (in), 11 A (in), 12 X0 (io), 13 X1 (io), 14 X (io), 15 Y (io), 16 VDD (power)

## MC14066BCPG
designator U?
Quad Analog Switch / Quad Multiplexer, 3 to 18 V, -55 to 125 degC, 14-Pin PDIP, Pb-Free, Tube; Manufacturer: On Semiconductor; PartNumber: MC14066BCPG; Icc Max (uA): 30; VCC Max (V): 18; VCC Min (V): 3; DatasheetVersion: Rev. 9; PackageVersion: Rev. P, 10/2006; PackageReference: PDIP-14-646-06_P; PackageDescription: 14-Pin Plastic Dual-In Line Package, Body 18.86 x 6.35 mm, Pitch 2.54 mm; Supplier 1: Digi-Key; Supplier Part Number 1: MC14066BCPGOS-ND; Supplier 2: Farnell; Supplier Part Number 2: 9664700; Supplier 3: Newark; Supplier Part Number 3: 45J1067; Supplier 4: Mouser; Supplier Part Number 4: 863-MC14066BCPG; Packing: Tube; RoHS: TRUE; Mounting Technology: Through Hole; ComponentLink1Description: Manufacturer URL; ComponentLink1URL: http://www.onsemi.com/; ComponentLink2Description: Datasheet; ComponentLink2URL: http://www.onsemi.com/pub_link/Collateral/MC14066B-D.PDF; ComponentLink3Description: Package Specification; ComponentLink3URL: http://www.onsemi.com/pub_link/Collateral/MC14066B-D.PDF
footprint ONSC-PDIP-14-646-06_P (DIP, 14-Leads, Body 19.55x6.6mm, Pitch 2.54mm)
pins: 1 IN1 (in), 2 OUT1 (hiz), 3 OUT2 (hiz), 4 IN2 (in), 5 CTRL2 (in), 6 CTRL3 (in), 7 VSS (power), 8 IN3 (in), 9 OUT3 (hiz), 10 OUT4 (hiz), 11 IN4 (in), 12 CTRL4 (in), 13 CTRL1 (in), 14 VDD (power)

## MC14066BDG
designator U?
Quad Analog Switch / Quad Multiplexer, 3 to 18 V, -55 to 125 degC, 14-Pin SOIC, Pb-Free, Tube; Manufacturer: On Semiconductor; PartNumber: MC14066BDG; Icc Max (uA): 30; VCC Max (V): 18; VCC Min (V): 3; DatasheetVersion: Rev. 9; PackageVersion: Rev. K, 05/2011; PackageReference: SOIC-14-751A-03; PackageDescription: 14-Pin Small Outline Integrated Circuit, Body 8.65 x 3.9 mm, Pitch 1.27 mm; Supplier 1: Digi-Key; Supplier Part Number 1: MC14066BDGOS-ND; Supplier 2: Farnell; Supplier Part Number 2: 9666443; Supplier 3: Newark; Supplier Part Number 3: 45J1068; Supplier 4: Mouser; Supplier Part Number 4: 863-MC14066BDG; Packing: Tube; RoHS: TRUE; Mounting Technology: Surface Mount; ComponentLink1Description: Manufacturer URL; ComponentLink1URL: http://www.onsemi.com/; ComponentLink2Description: Datasheet; ComponentLink2URL: http://www.onsemi.com/pub_link/Collateral/MC14066B-D.PDF; ComponentLink3Description: Package Specification; ComponentLink3URL: http://www.onsemi.com/pub_link/Collateral/751A-03.PDF
footprint ONSC-SOIC-14-751A-03_V (SOIC, 14-Leads, Body 8.75x4mm, Pitch 1.27mm)
pins: 1 IN1 (in), 2 OUT1 (hiz), 3 OUT2 (hiz), 4 IN2 (in), 5 CTRL2 (in), 6 CTRL3 (in), 7 VSS (power), 8 IN3 (in), 9 OUT3 (hiz), 10 OUT4 (hiz), 11 IN4 (in), 12 CTRL4 (in), 13 CTRL1 (in), 14 VDD (power)

## MC14066BDR2G
designator U?
Quad Analog Switch / Quad Multiplexer, 3 to 18 V, -55 to 125 degC, 14-Pin SOIC, Pb-Free, Tape and Reel; Manufacturer: On Semiconductor; PartNumber: MC14066BDR2G; Icc Max (uA): 30; VCC Max (V): 18; VCC Min (V): 3; DatasheetVersion: Rev. 9; PackageVersion: Rev. K, 05/2011; PackageReference: SOIC-14-751A-03; PackageDescription: 14-Pin Small Outline Integrated Circuit, Body 8.65 x 3.9 mm, Pitch 1.27 mm; Supplier 1: Digi-Key; Supplier Part Number 1: MC14066BDR2GOSTR-ND; Supplier 2: Digi-Key; Supplier Part Number 2: MC14066BDR2GOSCT-ND; Supplier 3: Digi-Key; Supplier Part Number 3: MC14066BDR2GOSDKR-ND; Supplier 4: Farnell; Supplier Part Number 4: 1887036; Supplier 5: Newark; Supplier Part Number 5: 98H0656; Supplier 6: Mouser; Supplier Part Number 6: 863-MC14066BDR2G; Packing: Tape and Reel; RoHS: TRUE; Mounting Technology: Surface Mount; ComponentLink1Description: Manufacturer URL; ComponentLink1URL: http://www.onsemi.com/; ComponentLink2Description: Datasheet; ComponentLink2URL: http://www.onsemi.com/pub_link/Collateral/MC14066B-D.PDF; ComponentLink3Description: Package Specification; ComponentLink3URL: http://www.onsemi.com/pub_link/Collateral/751A-03.PDF
footprint ONSC-SOIC-14-751A-03_V (SOIC, 14-Leads, Body 8.75x4mm, Pitch 1.27mm)
pins: 1 IN1 (in), 2 OUT1 (hiz), 3 OUT2 (hiz), 4 IN2 (in), 5 CTRL2 (in), 6 CTRL3 (in), 7 VSS (power), 8 IN3 (in), 9 OUT3 (hiz), 10 OUT4 (hiz), 11 IN4 (in), 12 CTRL4 (in), 13 CTRL1 (in), 14 VDD (power)

## MC14066BDTR2G
designator U?
Quad Analog Switch / Quad Multiplexer, 3 to 18 V, -55 to 125 degC, 14-Pin TSSOP, Pb-Free, Tape and Reel; Manufacturer: On Semiconductor; PartNumber: MC14066BDTR2G; Icc Max (uA): 30; VCC Max (V): 18; VCC Min (V): 3; DatasheetVersion: Rev. 9; PackageVersion: Rev. B, 10/2006; PackageReference: TSSOP-14-948G-01; PackageDescription: 14-Pin Small Outline Package, Body 5 x 4.4 mm, Pitch 0.65 mm; Supplier 1: Digi-Key; Supplier Part Number 1: MC14066BDTR2GOSTR-ND; Supplier 2: Digi-Key; Supplier Part Number 2: MC14066BDTR2GOSCT-ND; Supplier 3: Digi-Key; Supplier Part Number 3: MC14066BDTR2GOSDKR-ND; Supplier 4: Newark; Supplier Part Number 4: 42K0527; Supplier 5: Mouser; Supplier Part Number 5: 863-MC14066BDTR2G; Packing: Tape and Reel; RoHS: TRUE; Mounting Technology: Surface Mount; ComponentLink1Description: Manufacturer URL; ComponentLink1URL: http://www.onsemi.com/; ComponentLink2Description: Datasheet; ComponentLink2URL: http://www.onsemi.com/pub_link/Collateral/MC14066B-D.PDF; ComponentLink3Description: Package Specification; ComponentLink3URL: http://www.onsemi.com/pub_link/Collateral/948G-01.PDF
footprint ONSC-TSSOP-14-948G-01_V (SOP, 14-Leads, Body 5.1x4.5mm, Pitch 0.65mm)
pins: 1 IN1 (in), 2 OUT1 (hiz), 3 OUT2 (hiz), 4 IN2 (in), 5 CTRL2 (in), 6 CTRL3 (in), 7 VSS (power), 8 IN3 (in), 9 OUT3 (hiz), 10 OUT4 (hiz), 11 IN4 (in), 12 CTRL4 (in), 13 CTRL1 (in), 14 VDD (power)

## MC14066BFELG
designator U?
Quad Analog Switch / Quad Multiplexer, 3 to 18 V, -55 to 125 degC, 14-Pin SOEIAJ, Pb-Free, Tape and Reel; Manufacturer: On Semiconductor; PartNumber: MC14066BFELG; Icc Max (uA): 30; VCC Max (V): 18; VCC Min (V): 3; DatasheetVersion: Rev. 9; PackageVersion: Rev. B, 02/2008; PackageReference: SOEIAJ-14-965-01; PackageDescription: 14-Pin Small Outline Integrated Circuit, Body 10.2 x 5.275 mm, Pitch 1.27 mm; Supplier 1: Digi-Key; Supplier Part Number 1: MC14066BFELGOSTR-ND; Supplier 2: Digi-Key; Supplier Part Number 2: MC14066BFELGOSCT-ND; Supplier 3: Digi-Key; Supplier Part Number 3: MC14066BFELGOSDKR-ND; Supplier 4: Mouser; Supplier Part Number 4: 863-MC14066BFELG; Packing: Tape and Reel; RoHS: TRUE; Mounting Technology: Surface Mount; ComponentLink1Description: Manufacturer URL; ComponentLink1URL: http://www.onsemi.com/; ComponentLink2Description: Datasheet; ComponentLink2URL: http://www.onsemi.com/pub_link/Collateral/MC14066B-D.PDF; ComponentLink3Description: Package Specification; ComponentLink3URL: http://www.onsemi.com/pub_link/Collateral/965-01.PDF
footprint ONSC-SOEIAJ-14-965-01_N (SOIC, 14-Leads, Body 10.5x5.45mm, Pitch 1.27mm, IPC Medium Density)
footprint ONSC-SOEIAJ-14-965-01_L (SOIC, 14-Leads, Body 10.5x5.45mm, Pitch 1.27mm, IPC High Density)
footprint ONSC-SOEIAJ-14-965-01_M (SOIC, 14-Leads, Body 10.5x5.45mm, Pitch 1.27mm, IPC Low Density)
pins: 1 IN1 (in), 2 OUT1 (hiz), 3 OUT2 (hiz), 4 IN2 (in), 5 CTRL2 (in), 6 CTRL3 (in), 7 VSS (power), 8 IN3 (in), 9 OUT3 (hiz), 10 OUT4 (hiz), 11 IN4 (in), 12 CTRL4 (in), 13 CTRL1 (in), 14 VDD (power)

## MC14067BDWG
designator U?
Analog Multiplexer / Demultiplexer, 3 to 18 V, -55 to 125 degC, 24-Pin SOIC, Pb-Free, Tube; Manufacturer: On Semiconductor; PartNumber: MC14067BDWG; Icc Max (uA): 600; VCC Max (V): 18; VCC Min (V): 3; DatasheetVersion: Rev. 8; PackageVersion: Rev. F, 07/2012; PackageReference: SOIC-24-751E-04; PackageDescription: 24-Pin Small Outline Integrated Circuit, Body 15.4 x 7.5 mm, Pitch 1.27 mm; Supplier 1: Digi-Key; Supplier Part Number 1: MC14067BDWGOS-ND; Supplier 2: Farnell; Supplier Part Number 2: 9664882; Supplier 3: Newark; Supplier Part Number 3: 92K6848; Supplier 4: Newark; Supplier Part Number 4: 45J1070; Supplier 5: Mouser; Supplier Part Number 5: 863-MC14067BDWG; Packing: Tube; RoHS: TRUE; Mounting Technology: Surface Mount; ComponentLink1Description: Manufacturer URL; ComponentLink1URL: http://www.onsemi.com/; ComponentLink2Description: Datasheet; ComponentLink2URL: http://www.onsemi.com/pub_link/Collateral/MC14067B-D.PDF; ComponentLink3Description: Package Specification; ComponentLink3URL: http://www.onsemi.com/pub_link/Collateral/751E-04.PDF
footprint ONSC-SOIC-24-751E-04_V (SOIC, 24-Leads, Body 15.54x7.6mm, Pitch 1.27mm)
pins: 1 X, 2 X7, 3 X6, 4 X5, 5 X4, 6 X3, 7 X2, 8 X1, 9 X0, 10 A (in), 11 B (in), 12 VSS (power), 13 D (in), 14 C (in), 15 INHIBIT (in), 16 X15, 17 X14, 18 X13, 19 X12, 20 X11, 21 X10, 22 X9, 23 X8, 24 VDD (power)

## MC14067BDWR2G
designator U?
Analog Multiplexer / Demultiplexer, 3 to 18 V, -55 to 125 degC, 24-Pin SOIC, Pb-Free, Tape and Reel; Manufacturer: On Semiconductor; PartNumber: MC14067BDWR2G; Icc Max (uA): 600; VCC Max (V): 18; VCC Min (V): 3; DatasheetVersion: Rev. 8; PackageVersion: Rev. F, 07/2012; PackageReference: SOIC-24-751E-04; PackageDescription: 24-Pin Small Outline Integrated Circuit, Body 15.4 x 7.5 mm, Pitch 1.27 mm; Supplier 1: Digi-Key; Supplier Part Number 1: MC14067BDWR2GOSTR-ND; Supplier 2: Digi-Key; Supplier Part Number 2: MC14067BDWR2GOSCT-ND; Supplier 3: Digi-Key; Supplier Part Number 3: MC14067BDWR2GOSDKR-ND; Supplier 4: Newark; Supplier Part Number 4: 45J1071; Supplier 5: Mouser; Supplier Part Number 5: 863-MC14067BDWR2G; Packing: Tape and Reel; RoHS: TRUE; Mounting Technology: Surface Mount; ComponentLink1Description: Manufacturer URL; ComponentLink1URL: http://www.onsemi.com/; ComponentLink2Description: Datasheet; ComponentLink2URL: http://www.onsemi.com/pub_link/Collateral/MC14067B-D.PDF; ComponentLink3Description: Package Specification; ComponentLink3URL: http://www.onsemi.com/pub_link/Collateral/751E-04.PDF
footprint ONSC-SOIC-24-751E-04_V (SOIC, 24-Leads, Body 15.54x7.6mm, Pitch 1.27mm)
pins: 1 X, 2 X7, 3 X6, 4 X5, 5 X4, 6 X3, 7 X2, 8 X1, 9 X0, 10 A (in), 11 B (in), 12 VSS (power), 13 D (in), 14 C (in), 15 INHIBIT (in), 16 X15, 17 X14, 18 X13, 19 X12, 20 X11, 21 X10, 22 X9, 23 X8, 24 VDD (power)

## MC14551BCPG
designator U?
Quad 2-Channel Analog Multiplexer / Demultiplexer, 3 to 18 V, -55 to 125 degC, 16-Pin PDIP, Pb-Free, Tube; Manufacturer: On Semiconductor; PartNumber: MC14551BCPG; Icc Max (uA): 600; VCC Max (V): 18; VCC Min (V): 3; DatasheetVersion: Rev. 9; PackageVersion: Rev. T, 05/2004; PackageReference: PDIP-16-648-08_T; PackageDescription: 16-Pin Plastic Dual-In Line Package, Body 19.175 x 6.6 mm, Pitch 2.54 mm; Supplier 1: Digi-Key; Supplier Part Number 1: MC14551BCPGOS-ND; Supplier 2: Farnell; Supplier Part Number 2: 9665072; Supplier 3: Newark; Supplier Part Number 3: 45J1130; Supplier 4: Mouser; Supplier Part Number 4: 863-MC14551BCPG; Packing: Tube; RoHS: TRUE; Mounting Technology: Through Hole; ComponentLink1Description: Manufacturer URL; ComponentLink1URL: http://www.onsemi.com/; ComponentLink2Description: Datasheet; ComponentLink2URL: http://www.onsemi.com/pub_link/Collateral/MC14551B-D.PDF; ComponentLink3Description: Package Specification; ComponentLink3URL: http://www.onsemi.com/pub_link/Collateral/MC14028B-D.PDF
footprint ONSC-PDIP-16-648-08_T (DIP, 16-Leads, Body 19.55x6.85mm, Pitch 2.54mm)
pins: 1 W1 (io), 2 X0 (io), 3 X1 (io), 4 X (io), 5 Y (io), 6 Y0 (io), 7 VEE (power), 8 VSS (power), 9 CTRL (in), 10 Y1 (io), 11 Z0 (io), 12 Z1 (io), 13 Z (io), 14 W (io), 15 W0 (io), 16 VDD (power)

## MC14551BDG
designator U?
Quad 2-Channel Analog Multiplexer / Demultiplexer, 3 to 18 V, -55 to 125 degC, 16-Pin SOIC, Pb-Free, Tube; Manufacturer: On Semiconductor; PartNumber: MC14551BDG; Icc Max (uA): 600; VCC Max (V): 18; VCC Min (V): 3; DatasheetVersion: Rev. 9; PackageVersion: Rev. K, 12/2006; PackageReference: SOIC-16-751B-05; PackageDescription: 16-Pin Small Outline Integrated Circuit, Body 9.9 x 3.9 mm, Pitch 1.27 mm; Supplier 1: Digi-Key; Supplier Part Number 1: MC14551BDGOS-ND; Supplier 2: Farnell; Supplier Part Number 2: 9665242; Supplier 3: Newark; Supplier Part Number 3: 71J5501; Supplier 4: Mouser; Supplier Part Number 4: 863-MC14551BDG; Packing: Tube; RoHS: TRUE; Mounting Technology: Surface Mount; ComponentLink1Description: Manufacturer URL; ComponentLink1URL: http://www.onsemi.com/; ComponentLink2Description: Datasheet; ComponentLink2URL: http://www.onsemi.com/pub_link/Collateral/MC14551B-D.PDF; ComponentLink3Description: Package Specification; ComponentLink3URL: http://www.onsemi.com/pub_link/Collateral/751B-05.PDF
footprint ONSC-SOIC-16-751B-05_V (SOIC, 16-Leads, Body 10x4mm, Pitch 1.27mm)
pins: 1 W1 (io), 2 X0 (io), 3 X1 (io), 4 X (io), 5 Y (io), 6 Y0 (io), 7 VEE (power), 8 VSS (power), 9 CTRL (in), 10 Y1 (io), 11 Z0 (io), 12 Z1 (io), 13 Z (io), 14 W (io), 15 W0 (io), 16 VDD (power)

## MC14551BDR2G
designator U?
Quad 2-Channel Analog Multiplexer / Demultiplexer, 3 to 18 V, -55 to 125 degC, 16-Pin SOIC, Pb-Free, Tape and Reel; Manufacturer: On Semiconductor; PartNumber: MC14551BDR2G; Icc Max (uA): 600; VCC Max (V): 18; VCC Min (V): 3; DatasheetVersion: Rev. 9; PackageVersion: Rev. K, 12/2006; PackageReference: SOIC-16-751B-05; PackageDescription: 16-Pin Small Outline Integrated Circuit, Body 9.9 x 3.9 mm, Pitch 1.27 mm; Supplier 1: Digi-Key; Supplier Part Number 1: MC14551BDR2GOSTR-ND; Supplier 2: Digi-Key; Supplier Part Number 2: MC14551BDR2GOSCT-ND; Supplier 3: Digi-Key; Supplier Part Number 3: MC14551BDR2GOSDKR-ND; Supplier 4: Newark; Supplier Part Number 4: 71J5502; Supplier 5: Mouser; Supplier Part Number 5: 863-MC14551BDR2G; Packing: Tape and Reel; RoHS: TRUE; Mounting Technology: Surface Mount; ComponentLink1Description: Manufacturer URL; ComponentLink1URL: http://www.onsemi.com/; ComponentLink2Description: Datasheet; ComponentLink2URL: http://www.onsemi.com/pub_link/Collateral/MC14551B-D.PDF; ComponentLink3Description: Package Specification; ComponentLink3URL: http://www.onsemi.com/pub_link/Collateral/751B-05.PDF
footprint ONSC-SOIC-16-751B-05_V (SOIC, 16-Leads, Body 10x4mm, Pitch 1.27mm)
pins: 1 W1 (io), 2 X0 (io), 3 X1 (io), 4 X (io), 5 Y (io), 6 Y0 (io), 7 VEE (power), 8 VSS (power), 9 CTRL (in), 10 Y1 (io), 11 Z0 (io), 12 Z1 (io), 13 Z (io), 14 W (io), 15 W0 (io), 16 VDD (power)

## NL7WB66USG
designator U?
Ultra-Small SPST Analog Switch, 1.65 to 5.5 V, -55 to 125 degC, 8-Pin US, Pb-Free, Tape and Reel; Manufacturer: On Semiconductor; PartNumber: NL7WB66USG; Icc Max (uA): 2; VCC Max (V): 5.5; VCC Min (V): 1.65; DatasheetVersion: Rev. 4; PackageVersion: Rev. B, 04/2006; PackageReference: US-8-493-02; PackageDescription: 8-Pin Small Outline Package, Body 2 x 2.3 mm, Pitch 0.5 mm; Supplier 1: Digi-Key; Supplier Part Number 1: NL7WB66USGOSTR-ND; Supplier 2: Digi-Key; Supplier Part Number 2: NL7WB66USGOSCT-ND; Supplier 3: Digi-Key; Supplier Part Number 3: NL7WB66USGOSDKR-ND; Supplier 4: Newark; Supplier Part Number 4: 83H7753; Supplier 5: Newark; Supplier Part Number 5: 28X4857; Supplier 6: Mouser; Supplier Part Number 6: 863-NL7WB66USG; Packing: Tape and Reel; RoHS: TRUE; Mounting Technology: Surface Mount; ComponentLink1Description: Manufacturer URL; ComponentLink1URL: http://www.onsemi.com/; ComponentLink2Description: Datasheet; ComponentLink2URL: http://www.onsemi.com/pub_link/Collateral/NL7WB66-D.PDF; ComponentLink3Description: Package Specification; ComponentLink3URL: http://www.onsemi.com/pub_link/Collateral/493-01.PDF
footprint ONSC-US-8-493-02_V (SOP, 8-Leads, Body 2.4x2.1mm, Pitch 0.5mm)
pins: 1 NO1, 2 COM1, 3 OE2 (in), 4 GND (power), 5 NO2, 6 COM2, 7 OE1 (in), 8 VCC (power)

## NLAS323US
designator U?
Dual SPST Analog Switch, Low Voltage, Single Supply, 2 to 5.5 V, -55 to 125 degC, 8-Pin US, Tape and Reel; Manufacturer: On Semiconductor; PartNumber: NLAS323US; Icc Max (uA): 2; VCC Max (V): 5.5; DatasheetVersion: Rev. 6; PackageVersion: Rev. A, 06/2003; PackageReference: US-8-493-02_A; PackageDescription: 8-Pin Small Outline Package, Body 2 x 2.3 mm, Pitch 0.5 mm; Supplier 1: Digi-Key; Supplier Part Number 1: NLAS323USOSTR-ND; Supplier 2: Digi-Key; Supplier Part Number 2: NLAS323USOSCT-ND; Packing: Tape and Reel; RoHS: FALSE; VCC Min (V): 2; Mounting Technology: Surface Mount; ComponentLink1Description: Manufacturer URL; ComponentLink1URL: http://www.onsemi.com/; ComponentLink2Description: Datasheet; ComponentLink2URL: http://www.onsemi.com/pub_link/Collateral/NLAS323-D.PDF; ComponentLink3Description: Package Specification; ComponentLink3URL: http://www.onsemi.com/pub_link/Collateral/NLAS323-D.PDF
footprint ONSC-US-8-493-02_A_N (SOP, 8-Leads, Body 2.4x2.1mm, Pitch 0.5mm, IPC Medium Density)
footprint ONSC-US-8-493-02_A_L (SOP, 8-Leads, Body 2.4x2.1mm, Pitch 0.5mm, IPC High Density)
footprint ONSC-US-8-493-02_A_M (SOP, 8-Leads, Body 2.4x2.1mm, Pitch 0.5mm, IPC Low Density)
pins: 1 NO1, 2 COM1, 3 IN2 (in), 4 GND (power), 5 NO2, 6 COM2, 7 IN1 (in), 8 VCC (power)